# EAGLE library part 453-00006 (library 3D_MIG_Controller)
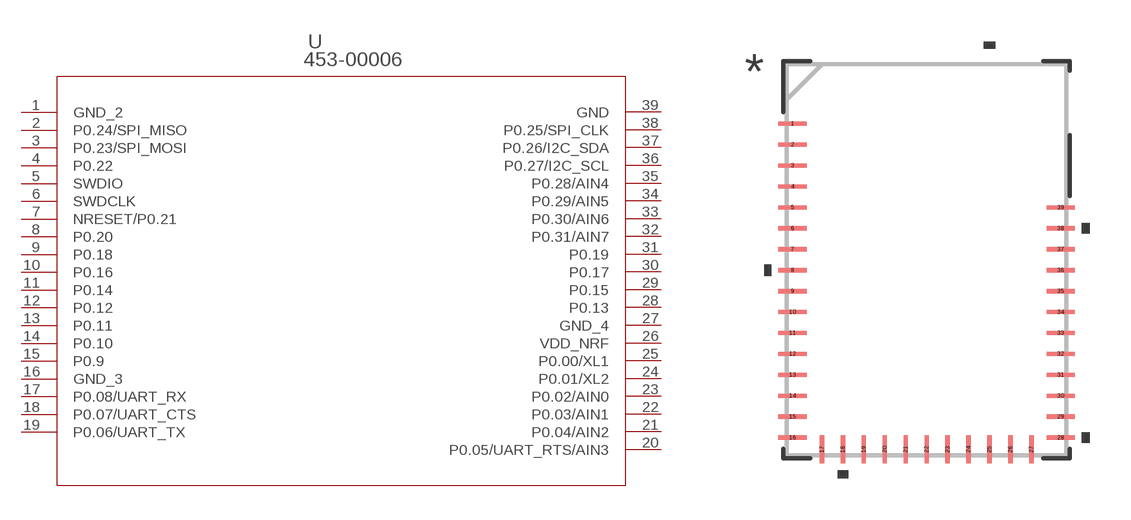
[diagram p48: symbol with the pads of 453-00006_LRD; footprint 453-00006_LRD]

Designator prefix U

## 453-00006 (BUILT_BY: EMA_Cory; COPYRIGHT: Copyright (C) 2018 Accelerated Designs. All rights reserved; MANUFACTURER_PART_NUMBER: 453-00006; SOURCELIBRARY: Laird_2019-12-03; VENDOR: Laird)  [453-00006_LRD]
1  GND_2  pas
2  P0.24/SPI_MISO
3  P0.23/SPI_MOSI
4  P0.22
5  SWDIO  pas
6  SWDCLK  pas
7  NRESET/P0.21  pas
8  P0.20
9  P0.18
10  P0.16
11  P0.14
12  P0.12
13  P0.11
14  P0.10
15  P0.9
16  GND_3  pas
17  P0.08/UART_RX
18  P0.07/UART_CTS
19  P0.06/UART_TX
20  P0.05/UART_RTS/AIN3  in
21  P0.04/AIN2  in
22  P0.03/AIN1  in
23  P0.02/AIN0
24  P0.01/XL2
25  P0.00/XL1
26  VDD_NRF  pwr
27  GND_4  pas
28  P0.13
29  P0.15
30  P0.17
31  P0.19
32  P0.31/AIN7  in
33  P0.30/AIN6  in
34  P0.29/AIN5  in
35  P0.28/AIN4  in
36  P0.27/I2C_SCL
37  P0.26/I2C_SDA
38  P0.25/SPI_CLK
39  GND  pas

## Footprint 453-00006_LRD (pad centres in mm)
smd 1.016 x 0.152: 1 -4.801,4.875; 2 -4.801,4.125; 3 -4.801,3.375; 4 -4.801,2.625; 5 -4.801,1.875; 6 -4.801,1.125; 7 -4.801,0.375; 8 -4.801,-0.375; 9 -4.801,-1.125; 10 -4.801,-1.875; 11 -4.801,-2.625; 12 -4.801,-3.375; 13 -4.801,-4.125; 14 -4.801,-4.875; 15 -4.801,-5.625; 16 -4.801,-6.375; 28 4.801,-6.375; 29 4.801,-5.625; 30 4.801,-4.875; 31 4.801,-4.125; 32 4.801,-3.375; 33 4.801,-2.625; 34 4.801,-1.875; 35 4.801,-1.125; 36 4.801,-0.375; 37 4.801,0.375; 38 4.801,1.125; 39 4.801,1.875
smd 0.152 x 1.016: 17 -3.75,-6.795; 18 -3,-6.795; 19 -2.25,-6.795; 20 -1.5,-6.795; 21 -0.75,-6.795; 22 0,-6.795; 23 0.75,-6.795; 24 1.5,-6.795; 25 2.25,-6.795; 26 3,-6.795; 27 3.75,-6.795